# Altium schematic symbol library 2854115.SchLib: 1 symbol
Pins are listed as number, name and electrical type; pins without a type are passive.

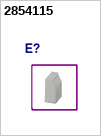
[diagram p0: symbol 2854115]

## 2854115
designator E?  (value not drawn)